# EAGLE library part CS5460A (library IC)
126-016: Cirrus CS5460A Energy Measurement IC
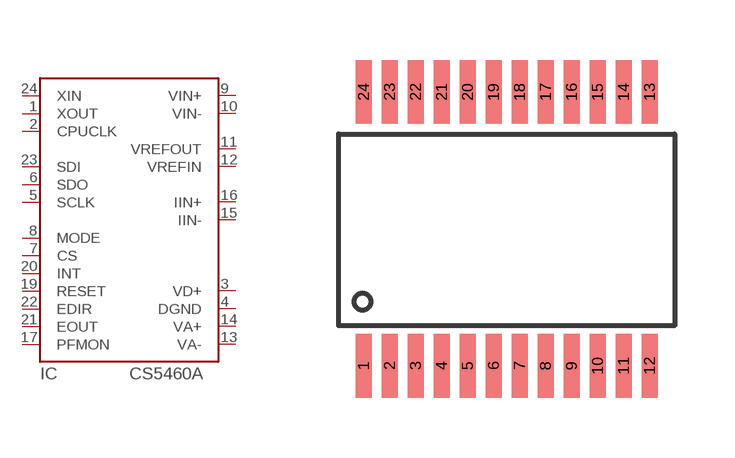
[diagram p8: symbol with the pads of SSOP24L; footprint SSOP24L]

Designator prefix IC

## CS5460A  [SSOP24L]
1  XOUT
2  CPUCLK  out
3  VD+  pwr
4  DGND  pwr
5  SCLK
6  SDO  out
7  CS  in
8  MODE  in
9  VIN+  in
10  VIN-  in
11  VREFOUT  out
12  VREFIN  in
13  VA-  pwr
14  VA+  pwr
15  IIN-  in
16  IIN+  in
17  PFMON  out
19  RESET  in
20  INT  out
21  EOUT  out
22  EDIR  out
23  SDI  in
24  XIN

## Footprint SSOP24L (pad centres in mm)
24 pin SSOP, 0.65mm lead pitch
smd 0.4 x 1.6: 1 -3.575,-3.4; 2 -2.925,-3.4; 3 -2.275,-3.4; 4 -1.625,-3.4; 5 -0.975,-3.4; 6 -0.325,-3.4; 7 0.325,-3.4; 8 0.975,-3.4; 9 1.625,-3.4; 10 2.275,-3.4; 11 2.925,-3.4; 12 3.575,-3.4; 13 3.575,3.45; 14 2.925,3.45; 15 2.275,3.45; 16 1.625,3.45; 17 0.975,3.45; 18 0.325,3.45; 19 -0.325,3.45; 20 -0.975,3.45; 21 -1.625,3.45; 22 -2.275,3.45; 23 -2.925,3.45; 24 -3.575,3.45